# Altium integrated library ST Comm Switching Matrix.IntLib: 1 symbol
Pins are listed as number, name and electrical type; pins without a type are passive.

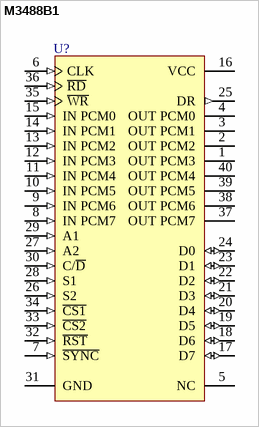
[diagram p0: symbol M3488B1]

## M3488B1
designator U?
256 X 256 Digital Switching Matrix; Published: 24-Aug-2001; LatestRevisionDate: 06-Jun-2005; LatestRevisionNote: Stylized 3D Model Added.; DatasheetVersion: Nov-1994; PackageVersion: Jun-1998; PackageReference: PDIP40; Publisher: Altium Limited; PackageDescription: DIP, Plastic; 40 Leads; Row Spacing 15.24 mm; Pitch 2.54 mm; ComponentLink1Description: Manufacturer Link; ComponentLink1URL: http://www.st.com/
footprint PDIP40 (DIP, Plastic; 40 Leads; Row Spacing 15.24 mm; Pitch 2.54 mm)
3D model PDIP40B (DIP, Plastic; 40 Leads; Row Spacing 15.24 mm; Pitch 2.54 mm)
pins: 1 OUT PCM3 (oc), 2 OUT PCM2 (oc), 3 OUT PCM1 (oc), 4 OUT PCM0 (oc), 5 NC, 6 CLK (in), 7 ~{SYNC} (in), 8 IN PCM7 (in), 9 IN PCM6 (in), 10 IN PCM5 (in), 11 IN PCM4 (in), 12 IN PCM3 (in), 13 IN PCM2 (in), 14 IN PCM1 (in), 15 IN PCM0 (in), 16 VCC (power), 17 D7 (io), 18 D6 (io), 19 D5 (io), 20 D4 (io), 21 D3 (io), 22 D2 (io), 23 D1 (io), 24 D0 (io), 25 DR (out), 26 S2 (in), 27 A2 (in), 28 S1 (in), 29 A1 (in), 30 C/~{D} (in), 31 GND (power), 32 ~{RST} (in), 33 ~{CS2} (in), 34 ~{CS1} (in), 35 ~{WR} (in), 36 ~{RD} (in), 37 OUT PCM7 (oc), 38 OUT PCM6 (oc), 39 OUT PCM5 (oc), 40 OUT PCM4 (oc)